# Altium footprint library ProtoStack_H750VBT.PcbLib: 87 footprints (part 2 of 6)
Each footprint in its own frame and in the unit in brackets; x right, y up, seen from the top. Pads: shape width x height; smd on the part's side, far side on the other; paste and mask are expansions set on the pad; w line width, h text height; cw(c..) or ccw(c..) is an arc to the next point about the centre after c.
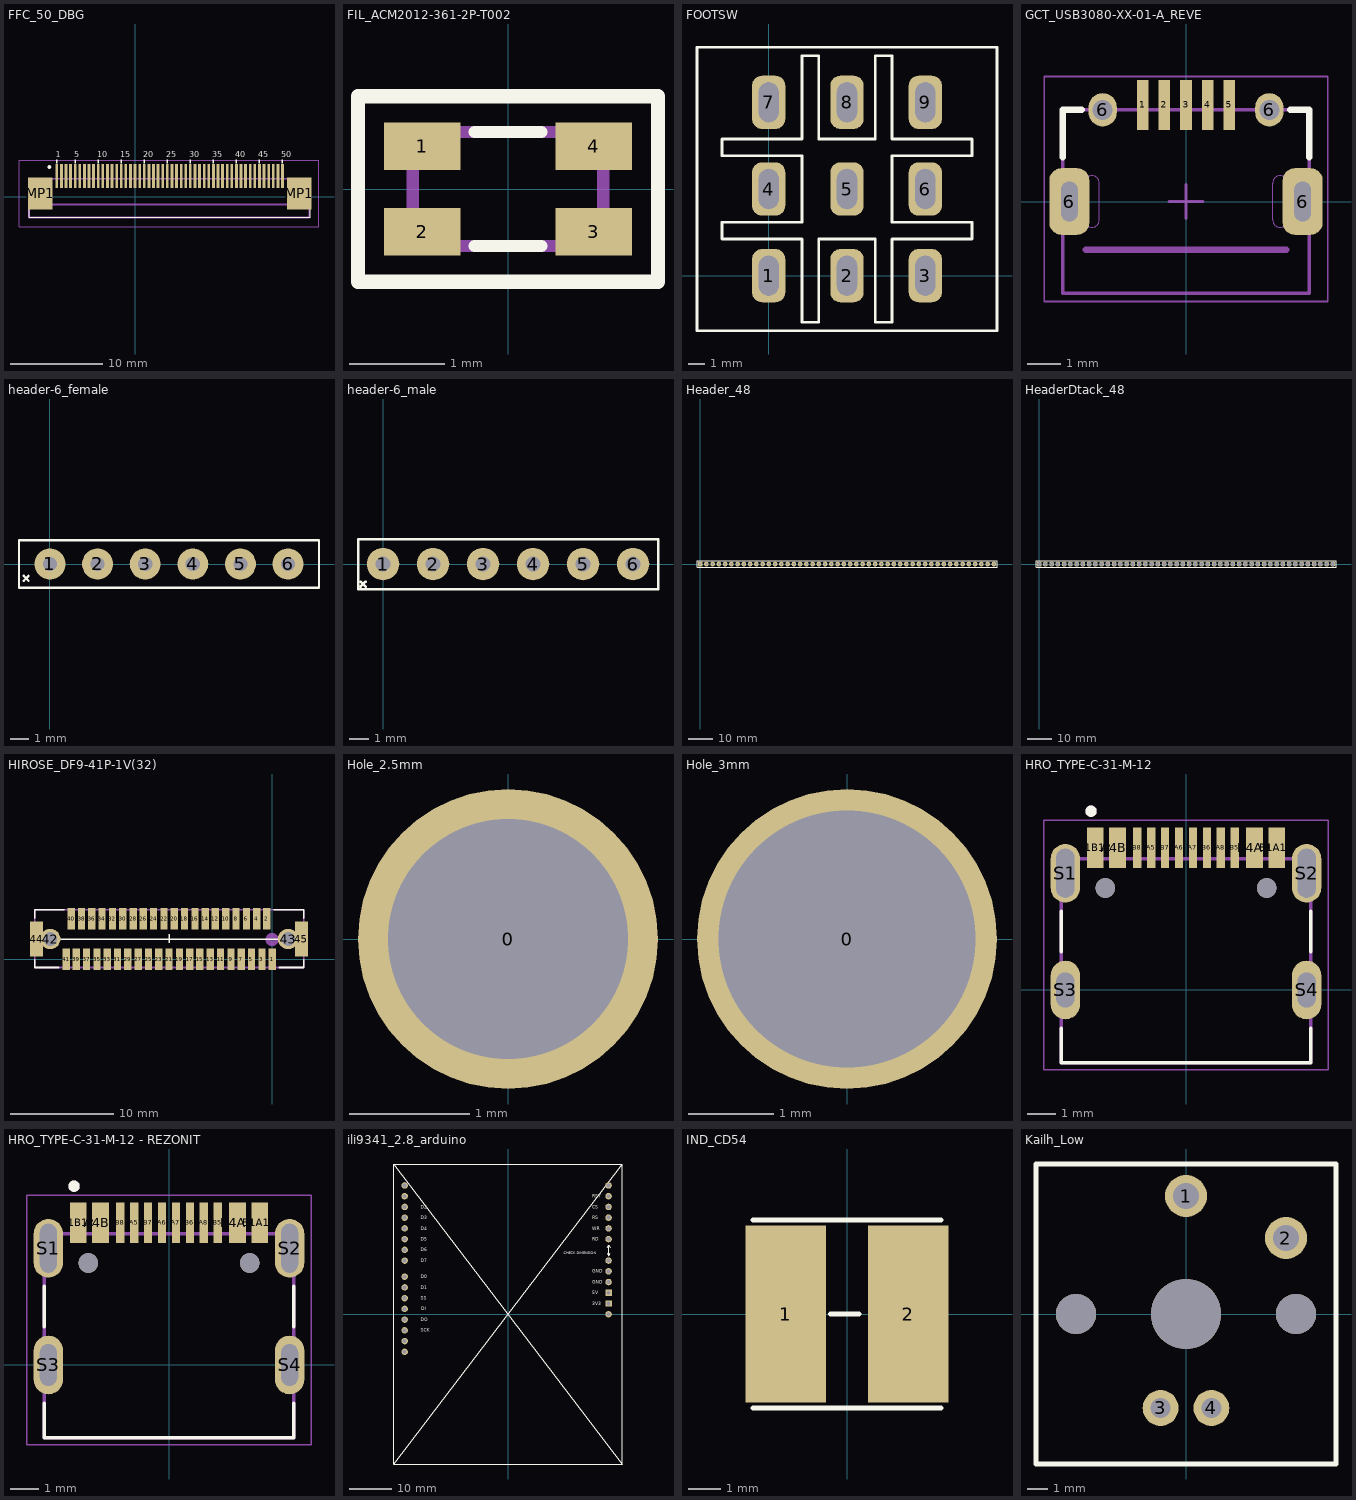
[diagram p1: the footprints below, top view; thin cyan lines are the x and y axes]

## FFC_50_DBG [mm]
pads (52):
  rect 0.3x2.6 smd: 1(-8.5,2.25) 2(-8,2.25) 3(-7.5,2.25) 4(-7,2.25) 5(-6.5,2.25) 6(-6,2.25) 7(-5.5,2.25) 8(-5,2.25) 9(-4.5,2.25) 10(-4,2.25) 11(-3.5,2.25) 12(-3,2.25) 13(-2.5,2.25) 14(-2,2.25) 15(-1.5,2.25) 16(-1,2.25) 17(-0.5,2.25) 18(0,2.25) 19(0.5,2.25) 20(1,2.25) 21(1.5,2.25) 22(2,2.25) 23(2.5,2.25) 24(3,2.25) 25(3.5,2.25) 26(4,2.25) 27(4.5,2.25) 28(5,2.25) 29(5.5,2.25) 30(6,2.25) 31(6.5,2.25) 32(7,2.25) 33(7.5,2.25) 34(8,2.25) 35(8.5,2.25) 36(9,2.25) 37(9.5,2.25) 38(10,2.25) 39(10.5,2.25) 40(11,2.25) 41(11.5,2.25) 42(12,2.25) 43(12.5,2.25) 44(13,2.25) 45(13.5,2.25) 46(14,2.25) 47(14.5,2.25) 48(15,2.25) 49(15.5,2.25) 50(16,2.25)
  rect 2.65x3.5 smd: MP1(-10.312,0.356) MP1(17.812,0.356)
Top Overlay:
  lines w0.1: -10.7,-0.85 -11.5,-0.85 -11.5,-2.25 19,-2.25 19,-0.85 18.2,-0.85
  lines w0.152: -8.509,3.607 -8.509,4.013 ; -6.509,3.607 -6.509,4.013 ; -4.009,3.607 -4.009,4.013 ; -1.509,3.607 -1.509,4.013 ; 0.991,3.607 0.991,4.013 ; 3.491,3.607 3.491,4.013 ; 5.991,3.607 5.991,4.013 ; 8.491,3.607 8.491,4.013 ; 10.991,3.607 10.991,4.013 ; 13.491,3.607 13.491,4.013 ; 15.991,3.607 15.991,4.013
  lines w0.2: -9.296,3.126 ccw(c-9.296,3.226) -9.296,3.326 ccw(c-9.296,3.226) -9.296,3.126
  text "1" at -8.611,4.293 h0.64
  text "5" at -6.611,4.293 h0.64
  text "10" at -4.111,4.293 h0.64
  text "15" at -1.611,4.293 h0.64
  text "20" at 0.889,4.293 h0.64
  text "25" at 3.389,4.293 h0.64
  text "30" at 5.889,4.293 h0.64
  text "35" at 8.389,4.293 h0.64
  text "40" at 10.889,4.293 h0.64
  text "45" at 13.389,4.293 h0.64
  text "50" at 15.889,4.293 h0.64
Mechanical 13:
  lines w0.2: 10.7,-0.85 -10.7,-0.85 -10.7,1.95 18.11,1.95 18.11,-0.85 ; 18.11,-0.85 -11.5,-0.85 -11.5,-2.25 18.91,-2.25 18.91,-0.85 18.11,-0.85
Mechanical 15:
  lines w0.1: -12.6,-3.25 19.964,-3.25 19.964,3.95 -12.6,3.95 -12.6,-3.25
3D body "FFC_50PIN_FCI_COLOUR.stp": height 2.06, standoff 0, extent -11.491,-2.322 19.009,3.318

## FIL_ACM2012-361-2P-T002 [mm]
pads (4):
  rect 0.8x0.5 smd: 1(-0.9,0.45) 2(-0.9,-0.45) 3(0.9,-0.45) 4(0.9,0.45)
Top Overlay:
  lines w0.127: -0.35,-0.6 0.35,-0.6 ; -0.35,0.6 0.35,0.6
  lines w0.15: -1.575,-0.975 -1.575,0.975 1.575,0.975 1.575,-0.975 -1.575,-0.975
Mechanical 1:
  circle w0: c-0.8,0.4 r0.1
  lines w0.127: -1,-0.6 -1,0.6 1,0.6 1,-0.6 -1,-0.6
3D body "User Library-ACM2012-2P.STEP": height 1.3, standoff 0, extent -1,-0.6 1,0.6

## FOOTSW [mm]
pads (9):
  rrect60% 2x3.2 hole 1.2 slot 2.4 at 90 deg: 1(0,0) 2(4.7,0) 3(9.4,0) 4(0,5.2) 5(4.7,5.2) 6(9.4,5.2) 7(0,10.4) 8(4.7,10.4) 9(9.4,10.4)
Top Overlay:
  lines w0.152: 4.3,5.2 5.1,5.2 ; 4.7,4.8 4.7,5.6 ; -4.3,-3.3 -4.3,13.7 13.7,13.7 13.7,-3.3 -4.3,-3.3 ; -2.8,2.2 -2.8,3.2 2,3.2 2,7.2 -2.8,7.2 -2.8,8.2 2,8.2 2,13.2 3,13.2 3,8.2 6.4,8.2 6.4,13.2 7.4,13.2 7.4,8.2 12.2,8.2 12.2,7.2 7.4,7.2 7.4,3.2 12.2,3.2 12.2,2.2 7.4,2.2 7.4,-2.8 6.4,-2.8 6.4,2.2 3,2.2 3,-2.8 2,-2.8 2,2.2 -2.8,2.2
3D body "3PDT.stp": height 39.54, standoff -4.96, extent -3.81,-4.593 13.19,15.007

## GCT_USB3080-XX-01-A_REVE [mm]
pads (9):
  rect 0.35x1.5 smd: 1(-1.3,2.9) 2(-0.65,2.9) 3(0,2.9) 4(0.65,2.9) 5(1.3,2.9)
  rrect60% 1.2x2 hole 1.2 slot 0.5 at 0 deg: 6(-3.5,0) 6(3.5,0)
  oval 0.85x1 hole 0.6: 6(-2.5,2.75) 6(2.5,2.75)
Top Overlay:
  lines w0.2: -3.7,1.325 -3.7,2.75 -3.125,2.75 ; 3.125,2.75 3.7,2.75 3.7,1.325
Mechanical 1:
  lines w0: -3.05,-0.55 ccw(c-2.825,-0.55) -2.825,-0.775 ccw(c-2.825,-0.55) -2.6,-0.55 -2.6,0.55 ccw(c-2.825,0.55) -2.825,0.775 ccw(c-2.825,0.55) -3.05,0.55 -3.05,-0.55 ; 2.6,-0.55 ccw(c2.825,-0.55) 2.825,-0.775 ccw(c2.825,-0.55) 3.05,-0.55 3.05,0.55 ccw(c2.825,0.55) 2.825,0.775 ccw(c2.825,0.55) 2.6,0.55 2.6,-0.55
  lines w0.05: -4.25,-3 4.25,-3 4.25,3.75 -4.25,3.75 -4.25,-3
  lines w0.1: -0.508,0 0.508,0 ; 0,-0.508 0,0.508 ; -3.7,-2.75 3.7,-2.75 3.7,2.75 -3.7,2.75 -3.7,-2.75
  lines w0.2: -3,-1.45 3,-1.45
3D body "Micro_USB_WM11262TR-ND.stp": height -0.18, standoff -3.48, extent -3.75,-2.15 3.75,2.85

## header-6_female [mil]
pads (6):
  round 65 hole 30: 1(0,0) 2(100,0) 3(200,0) 4(300,0) 5(400,0) 6(500,0)
Top Overlay:
  lines w5: -55,-35 -45,-25 ; -55,-25 -45,-35 ; -65,-50 -65,50 565,50 565,-50 -65,-50
3D body "DS1023-1x6SF11.stp": height 334.65, standoff -118.11, extent -65.75,-49.99 565.75,50.01

## header-6_male [mil]
pads (6):
  round 65 hole 30: 1(0,0) 2(100,0) 3(200,0) 4(300,0) 5(400,0) 6(500,0)
Top Overlay:
  lines w5: -45,-45 -35,-35 ; -45,-35 -35,-45 ; -50,-50 550,-50 550,50 -50,50 -50,-50
3D body "DS1021-1x6SF11.stp": height 338.58, standoff -118.11, extent -49.99,-50 550.01,50

## Header_48 [mm]
pads (48):
  rect 1.8x2 hole 0.762: 1(0,0)
  oval 1.8x2 hole 0.762: 2(2.54,0) 3(5.08,0) 4(7.62,0) 5(10.16,0) 6(12.7,0) 7(15.24,0) 8(17.78,0) 9(20.32,0) 10(22.86,0) 11(25.4,0) 12(27.94,0) 13(30.48,0) 14(33.02,0) 15(35.56,0) 16(38.1,0) 17(40.64,0) 18(43.18,0) 19(45.72,0) 20(48.26,0) 21(50.8,0) 22(53.34,0) 23(55.88,0) 24(58.42,0) 25(60.96,0) 26(63.5,0) 27(66.04,0) 28(68.58,0) 29(71.12,0) 30(73.66,0) 31(76.2,0) 32(78.74,0) 33(81.28,0) 34(83.82,0) 35(86.36,0) 36(88.9,0) 37(91.44,0) 38(93.98,0) 39(96.52,0) 40(99.06,0) 41(101.6,0) 42(104.14,0) 43(106.68,0) 44(109.22,0) 45(111.76,0) 46(114.3,0) 47(116.84,0) 48(119.38,0)
Top Overlay:
  lines w0.152: -1.27,-1.27 -1.27,1.27 120.65,1.27 120.65,-1.27 -1.27,-1.27

## HeaderDtack_48 [mm]
pads (48):
  rect 1.9x2.1 hole 1.5: 1(0,0)
  oval 1.9x2.1 hole 1.5: 2(2.54,0) 3(5.08,0) 4(7.62,0) 5(10.16,0) 6(12.7,0) 7(15.24,0) 8(17.78,0) 9(20.32,0) 10(22.86,0) 11(25.4,0) 12(27.94,0) 13(30.48,0) 14(33.02,0) 15(35.56,0) 16(38.1,0) 17(40.64,0) 18(43.18,0) 19(45.72,0) 20(48.26,0) 21(50.8,0) 22(53.34,0) 23(55.88,0) 24(58.42,0) 25(60.96,0) 26(63.5,0) 27(66.04,0) 28(68.58,0) 29(71.12,0) 30(73.66,0) 31(76.2,0) 32(78.74,0) 33(81.28,0) 34(83.82,0) 35(86.36,0) 36(88.9,0) 37(91.44,0) 38(93.98,0) 39(96.52,0) 40(99.06,0) 41(101.6,0) 42(104.14,0) 43(106.68,0) 44(109.22,0) 45(111.76,0) 46(114.3,0) 47(116.84,0) 48(119.38,0)
Top Overlay:
  lines w0.152: -1.27,-1.27 -1.27,1.27 120.65,1.27 120.65,-1.27 -1.27,-1.27

## HIROSE_DF9-41P-1V(32) [mil]
pads (45):
  rect 28x82 smd: 1(0,0) 2(-20,154) 3(-39,0) 4(-59,154) 5(-79,0) 6(-98,154) 7(-118,0) 8(-138,154) 9(-157,0) 10(-177,154) 11(-197,0) 12(-217,154) 13(-236,0) 14(-256,154) 15(-276,0) 16(-295,154) 17(-315,0) 18(-335,154) 19(-354,0) 20(-374,154) 21(-394,0) 22(-413,154) 23(-433,0) 24(-453,154) 25(-472,0) 26(-492,154) 27(-512,0) 28(-531,154) 29(-551,0) 30(-571,154) 31(-591,0) 32(-610,154) 33(-630,0) 34(-650,154) 35(-669,0) 36(-689,154) 37(-709,0) 38(-728,154) 39(-748,0) 40(-768,154) 41(-787,0)
  round 78 hole 52: 42(-848,77) 43(61,77)
  rect 51x134 smd: 44(-900,77) 45(112,77)
Top Overlay:
  lines w5: -848,77 61,77 ; -393.7,62.99 -393.7,94.49
  lines w6: -907,-3 -907,-32 -815,-32 ; -907,157 -907,188 -795,188 ; 7,188 120,188 120,157 ; 27,-32 120,-32 120,-3
Mechanical 13:
  lines w6: -907,-32 120,-32 120,188 -907,188 -907,-32
  lines w20: 0,60 ccw(c0,75) 0,90 ccw(c0,75) 0,60
3D body: height 43.31, standoff 0, extent 79.14,8.33 134.26,146.13
3D body: height 43.31, standoff 0, extent -921.26,7.87 -866.14,145.67
3D body: height 133.86, standoff 0, extent -868.11,-1.74 80.71,155.74

## Hole_2.5mm [mm]
pads (1):
  round 2.5 hole 2: 0(0,0)
3D body: height 0.5, standoff -1.5, extent -0.5,-0.5 0.5,0.5

## Hole_3mm [mm]
pads (1):
  round 3.5 hole 3: 0(0,0)
3D body: height 0.5, standoff -1.5, extent -0.5,-0.5 0.5,0.5

## HRO_TYPE-C-31-M-12 [mm]
pads (18):
  rect 0.6x1.45 smd: A1B12(-3.25,5.095) A4B9(-2.45,5.095) B1A12(3.25,5.095) B4A9(2.45,5.095)
  rect 0.3x1.45 smd: A5(-1.25,5.095) A6(-0.25,5.095) A7(0.25,5.095) A8(1.25,5.095) B5(1.75,5.095) B6(0.75,5.095) B7(-0.75,5.095) B8(-1.75,5.095)
  oval 1.05x2.1 hole 0.65 slot 1.75 at 90 deg: S1(-4.32,4.18) S2(4.32,4.18)
  oval 1.05x2.1 hole 0.65 slot 1.25 at 90 deg: S3(-4.32,0) S4(4.32,0)
  round 0.7 hole 0.7 unplated: ""(-2.89,3.65) ""(2.89,3.65)
Top Overlay:
  circle w0.2: c-3.4,6.4 r0.1
  lines w0.127: -4.47,-1.37 -4.47,-2.6 4.47,-2.6 4.47,-1.37 ; -4.47,1.37 -4.47,2.81 ; 4.47,1.37 4.47,2.81
Mechanical 13:
  circle w0.2: c-3.4,6.4 r0.1
  lines w0.127: -4.47,-2.6 -4.47,4.7 4.47,4.7 4.47,-2.6 -4.47,-2.6
Mechanical 15:
  lines w0.05: -5.095,-2.85 -5.095,6.07 5.095,6.07 5.095,-2.85 -5.095,-2.85
3D body "step_temp.STEP": height 3.31, standoff -0.99, extent -4.47,-2.6 4.47,5.305

## HRO_TYPE-C-31-M-12 - REZONIT [mm]
pads (18):
  rect 0.6x1.45 smd: A1B12(-3.25,5.095) A4B9(-2.45,5.095) B1A12(3.25,5.095) B4A9(2.45,5.095)
  rect 0.3x1.45 smd: A5(-1.25,5.095) A6(-0.25,5.095) A7(0.25,5.095) A8(1.25,5.095) B5(1.75,5.095) B6(0.75,5.095) B7(-0.75,5.095) B8(-1.75,5.095)
  oval 1.05x2.1 hole 0.6 slot 1.75 at 90 deg: S1(-4.32,4.18) S2(4.32,4.18)
  oval 1.05x2.1 hole 0.6 slot 1.5 at 90 deg: S3(-4.32,0) S4(4.32,0)
  round 0.7 hole 0.7 unplated: ""(-2.89,3.65) ""(2.89,3.65)
Top Overlay:
  circle w0.2: c-3.4,6.4 r0.1
  lines w0.127: -4.47,-1.37 -4.47,-2.6 4.47,-2.6 4.47,-1.37 ; -4.47,1.37 -4.47,2.81 ; 4.47,1.37 4.47,2.81
Mechanical 13:
  circle w0.2: c-3.4,6.4 r0.1
  lines w0.127: -4.47,-2.6 4.47,-2.6 4.47,4.7 -4.47,4.7 -4.47,-2.6
Mechanical 15:
  lines w0.05: -5.095,-2.85 5.095,-2.85 5.095,6.07 -5.095,6.07 -5.095,-2.85
3D body "step_temp.STEP": height 3.31, standoff -0.99, extent -4.47,-2.6 4.47,5.305

## ili9341_2.8_arduino [mil]
pads (28):
  round 60 hole 36: 0(-962.99,-352.37) 0(-962.99,-252.37) 0(-962.99,1097.63) 0(-962.99,1197.63) 0(937.01,-2.37) 0(937.01,497.63) 0(937.01,1197.63) 1(937.01,1097.63) 2(937.01,997.63) 3(937.01,897.63) 4(937.01,797.63) 5(937.01,697.63) 6(937.01,297.63) 6(937.01,397.63) 10(-962.99,997.63) 11(-962.99,897.63) 12(-962.99,797.63) 13(-962.99,697.63) 14(-962.99,597.63) 15(-962.99,497.63) 16(-962.99,347.63) 17(-962.99,247.63) 18(-962.99,147.63) 19(-962.99,47.63) 20(-962.99,-52.37) 21(-962.99,-152.37)
  rect 60x60 hole 36: 7(937.02,197.88) 8(937.02,97.89)
Top Overlay:
  lines w7.87: -1062.99,-1397.63 -1062.99,1397.63 1062.99,1397.63 1062.99,-1397.63 -1062.99,-1397.63
  lines w8: -1062.99,-1397.63 1062.99,1397.63 ; -1062.99,1397.63 1062.99,-1397.63 ; 925,565 940,545 ; 925,620 940,640 ; 955,565 940,545 ; 955,620 940,640 ; 940,545 940,640
  text "GND" at 787.01,282.63 h30
  text "CHECK DIMENSION" at 521,556 h25
  text "5V" at 787.01,182.63 h30
  text "GND" at 787.01,382.63 h30
  text "CS" at 787.01,982.63 h30
  text "RST" at 787.01,1082.63 h30
  text "WR" at 787.01,782.63 h30
  text "RD" at 787.01,682.63 h30
  text "RS" at 787.01,882.63 h30
  text "3V3" at 787.01,82.64 h30
  text "D2" at -812.99,982.63 h30
  text "D3" at -812.99,882.63 h30
  text "D4" at -812.99,782.63 h30
  text "D5" at -812.99,682.63 h30
  text "D6" at -812.99,582.63 h30
  text "D7" at -812.99,482.63 h30
  text "D0" at -812.99,332.63 h30
  text "D1" at -812.99,232.63 h30
  text "SS" at -812.99,132.63 h30
  text "DI" at -808.93,36.43 h30
  text "DO" at -812.99,-67.36 h30
  text "SCK" at -812.99,-167.37 h30
3D body "Elegoo_2.8_TFT_LCD_Display.stp": height 771.65, standoff 106.3, extent -1055,-1361.34 1027.68,1721.34

## IND_CD54 [mm]
pads (2):
  rect 2.5x5.5 smd: 1(-1.905,0) 2(1.905,0)
Top Overlay:
  lines w0.152: -2.921,-2.921 2.921,-2.921 ; -2.921,2.921 2.921,2.921 ; -0.508,0 0.381,0

## Kailh_Low [mm]
pads (7):
  round 2.1 hole 1.3: 1(0,5.9) 2(5,3.8)
  round 1.8 hole 1: 3(-1.27,-4.699) 4(1.27,-4.699)
  round 2 hole 2 unplated: ""(-5.5,0) ""(5.5,0)
  round 3.5 hole 3.5 unplated: ""(0,0)
Top Overlay:
  lines w0.254: -7.5,-7.5 7.5,-7.5 7.5,7.5 -7.5,7.5 -7.5,-7.5
3D body "Kailh Choc Low Profile Switch.step": height 8, standoff -3, extent -7.5,-7.5 7.5,7.5